# Altium schematic symbol library Components.SchLib: 1 symbol
Pins are listed as number, name and electrical type; pins without a type are passive.

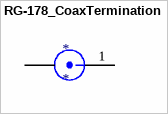
[diagram p0: symbol RG-178_CoaxTermination]

## RG-178_CoaxTermination
designator *
footprint RG-178_TERMINATION (RG-178 Solder Termination in a PCB)
pins: 1, GND